# EAGLE library part FIN1031MTCX (library Driver_Transceiver ICs)
IC DRIVER 4/0 16TSSOP Manufacturer's datasheet <https://media.digikey.com/pdf/Data%20Sheets/Fairchild%20PDFs/FIN1031.pdf>
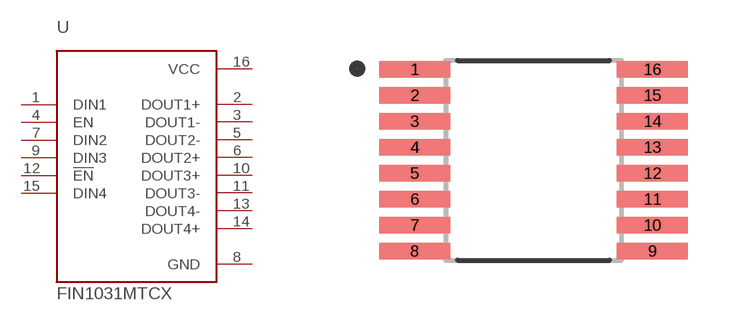
[diagram p6: symbol with the pads of TSSOP-16; footprint TSSOP-16]

Designator prefix U

## FIN1031MTCX (CREATED_BY: PCBLayout.com; DIGIKEY_PN: FIN1031MTCXTR-ND; MANUFACTURER: ON Semiconductor; MPN: FIN1031MTCX; PACKAGE: TSSOP-16)  [TSSOP-16]
1  DIN1  in
2  DOUT1+  out
3  DOUT1-  out
4  EN  in
5  DOUT2-  out
6  DOUT2+  out
7  DIN2  in
8  GND  pwr
9  DIN3  in
10  DOUT3+  out
11  DOUT3-  out
12  !EN  in
13  DOUT4-  out
14  DOUT4+  out
15  DIN4  in
16  VCC  pwr

## Footprint TSSOP-16 (pad centres in mm)
smd 1.78 x 0.42: 1 -2.97,2.275; 2 -2.97,1.625; 3 -2.97,0.975; 4 -2.97,0.325; 5 -2.97,-0.325; 6 -2.97,-0.975; 7 -2.97,-1.625; 8 -2.97,-2.275; 9 2.97,-2.275; 10 2.97,-1.625; 11 2.97,-0.975; 12 2.97,-0.325; 13 2.97,0.325; 14 2.97,0.975; 15 2.97,1.625; 16 2.97,2.275